# Altium footprint library NXP_UART_Interfaces.PcbLib: 2 footprints
Each footprint in its own frame and in the unit in brackets; x right, y up, seen from the top. Pads: shape width x height; smd on the part's side, far side on the other; paste and mask are expansions set on the pad; w line width, h text height; cw(c..) or ccw(c..) is an arc to the next point about the centre after c.
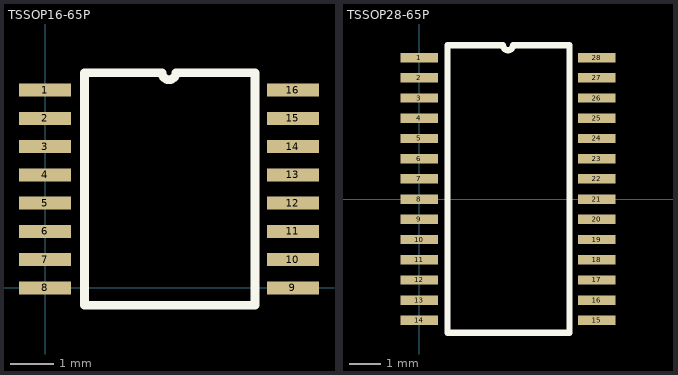
[diagram p0: the footprints below, top view; thin cyan lines are the x and y axes]

## TSSOP16-65P [mm]
pads (16):
  rect 1.2x0.3 smd: 1(0,4.55) 2(0,3.9) 3(0,3.25) 4(0,2.6) 5(0,1.95) 6(0,1.3) 7(0,0.65) 8(0,0) 9(5.7,0) 10(5.7,0.65) 11(5.7,1.3) 12(5.7,1.95) 13(5.7,2.6) 14(5.7,3.25) 15(5.7,3.9) 16(5.7,4.55)
Top Overlay:
  lines w0.2: 0.908,-0.4 0.908,4.95 2.688,4.95 ccw(c2.85,4.95) 3.012,4.95 4.826,4.95 4.826,-0.4 0.908,-0.4

## TSSOP28-65P [mm]
pads (28):
  rect 1.2x0.3 smd: 1(0,4.55) 2(0,3.9) 3(0,3.25) 4(0,2.6) 5(0,1.95) 6(0,1.3) 7(0,0.65) 8(0,0) 9(0,-0.65) 10(0,-1.3) 11(0,-1.95) 12(0,-2.6) 13(0,-3.25) 14(0,-3.9) 15(5.7,-3.9) 16(5.7,-3.25) 17(5.7,-2.6) 18(5.7,-1.95) 19(5.7,-1.3) 20(5.7,-0.65) 21(5.7,0) 22(5.7,0.65) 23(5.7,1.3) 24(5.7,1.95) 25(5.7,2.6) 26(5.7,3.25) 27(5.7,3.9) 28(5.7,4.55)
Top Overlay:
  lines w0.2: 0.908,-4.3 4.826,-4.3 ; 0.908,-4.267 0.908,4.95 2.688,4.95 ccw(c2.85,4.95) 3.012,4.95 4.826,4.95 4.826,-4.293